# EAGLE library part ENC28J60 (library X893)
http://ww1.microchip.com/downloads/en/DeviceDoc/39662c.pdf
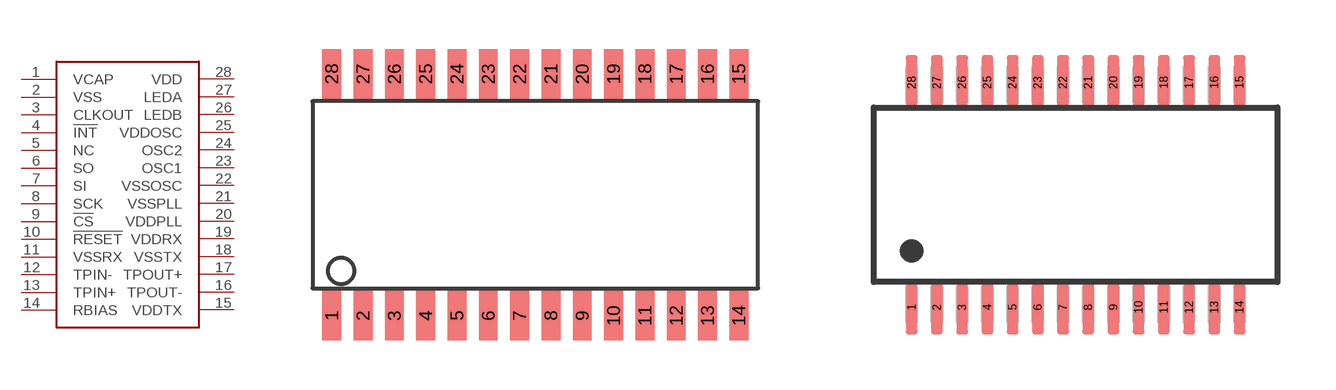
[diagram p97: symbol with the pads of SO-28LD; footprints SO-28LD, SSOP28DB]

Designator prefix -

## ENC28J60-I/SO  [SO-28LD]
1  VCAP  pas
2  VSS  sup
3  CLKOUT  sup
4  !INT  sup
5  NC  sup
6  SO  sup
7  SI  sup
8  SCK  sup
9  !CS  sup
10  !RESET  sup
11  VSSRX  pas
12  TPIN-  pas
13  TPIN+  pas
14  RBIAS  pas
15  VDDTX  pas
16  TPOUT-  sup
17  TPOUT+  pas
18  VSSTX  pas
19  VDDRX  pas
20  VDDPLL  pas
21  VSSPLL  sup
22  VSSOSC  sup
23  OSC1  pas
24  OSC2  pas
25  VDDOSC  pas
26  LEDB  pas
27  LEDA  pas
28  VDD  pas

## ENC28J60-I/SS  [SSOP28DB]
Pads as for SO-28LD

## Footprint SO-28LD (pad centres in mm)
Small Outline Package
smd 0.762 x 2.024: 1 -8.255,-4.906; 2 -6.985,-4.906; 3 -5.715,-4.906; 4 -4.445,-4.906; 5 -3.175,-4.906; 6 -1.905,-4.906; 7 -0.635,-4.906; 8 0.635,-4.906; 9 1.905,-4.906; 10 3.175,-4.906; 11 4.445,-4.906; 12 5.715,-4.906; 13 6.985,-4.906; 14 8.255,-4.906; 15 8.255,4.906; 16 6.985,4.906; 17 5.715,4.906; 18 4.445,4.906; 19 3.175,4.906; 20 1.905,4.906; 21 0.635,4.906; 22 -0.635,4.906; 23 -1.905,4.906; 24 -3.175,4.906; 25 -4.445,4.906; 26 -5.715,4.906; 27 -6.985,4.906; 28 -8.255,4.906

## Footprint SSOP28DB (pad centres in mm)
Small Shrink Outline Package
smd 0.3 x 1.4: 1 -4.225,-2.9; 2 -3.575,-2.9; 3 -2.925,-2.9; 4 -2.275,-2.9; 5 -1.625,-2.9; 6 -0.975,-2.9; 7 -0.325,-2.9; 8 0.325,-2.9; 9 0.975,-2.9; 10 1.625,-2.9; 11 2.275,-2.9; 12 2.925,-2.9; 13 3.575,-2.9; 14 4.225,-2.9; 15 4.225,2.9; 16 3.575,2.9; 17 2.925,2.9; 18 2.275,2.9; 19 1.625,2.9; 20 0.975,2.9; 21 0.325,2.9; 22 -0.325,2.9; 23 -0.975,2.9; 24 -1.625,2.9; 25 -2.275,2.9; 26 -2.925,2.9; 27 -3.575,2.9; 28 -4.225,2.9